# EAGLE library part LED_40 (library tus)
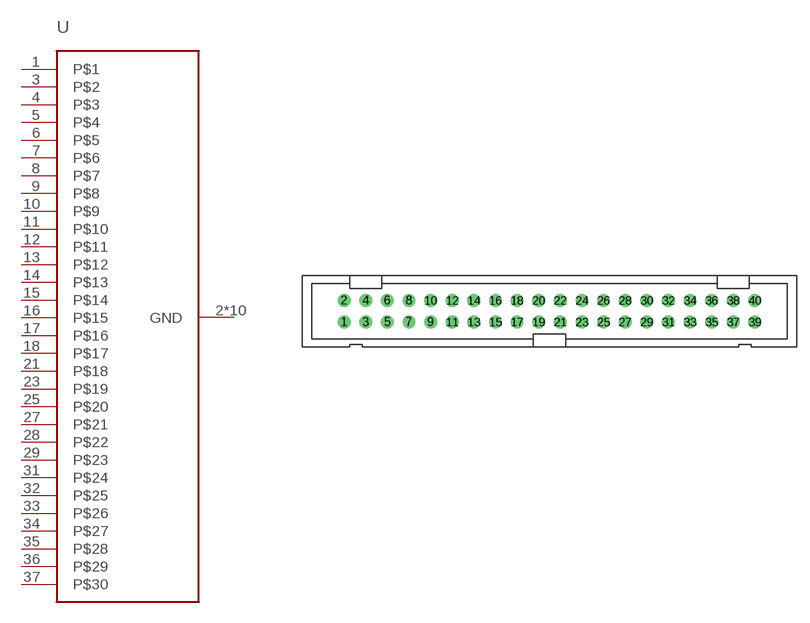
[diagram p2: symbol with the pads of PAK100/2500-40; footprint PAK100/2500-40]

Designator prefix -

## LED_40  [PAK100/2500-40]
1  P$1
2  GND
3  P$2
4  P$3
5  P$4
6  P$5
7  P$6
8  P$7
9  P$8
10  P$9
11  P$10
12  P$11
13  P$12
14  P$13
15  P$14
16  P$15
17  P$16
18  P$17
19  GND
20  GND
21  P$18
22  GND
23  P$19
24  GND
25  P$20
26  GND
27  P$21
28  P$22
29  P$23
30  GND
31  P$24
32  P$25
33  P$26
34  P$27
35  P$28
36  P$29
37  P$30
38  GND
39  GND
40  GND

## Footprint PAK100/2500-40 (pad centres in mm)
3M (TM) Pak 100 4-Wall Header Straight Source: 3M
drill 1 pad 1.422: 1 -24.13,-1.27; 2 -24.13,1.27; 3 -21.59,-1.27; 4 -21.59,1.27; 5 -19.05,-1.27; 6 -19.05,1.27; 7 -16.51,-1.27; 8 -16.51,1.27; 9 -13.97,-1.27; 10 -13.97,1.27; 11 -11.43,-1.27; 12 -11.43,1.27; 13 -8.89,-1.27; 14 -8.89,1.27; 15 -6.35,-1.27; 16 -6.35,1.27; 17 -3.81,-1.27; 18 -3.81,1.27; 19 -1.27,-1.27; 20 -1.27,1.27; 21 1.27,-1.27; 22 1.27,1.27; 23 3.81,-1.27; 24 3.81,1.27; 25 6.35,-1.27; 26 6.35,1.27; 27 8.89,-1.27; 28 8.89,1.27; 29 11.43,-1.27; 30 11.43,1.27; 31 13.97,-1.27; 32 13.97,1.27; 33 16.51,-1.27; 34 16.51,1.27; 35 19.05,-1.27; 36 19.05,1.27; 37 21.59,-1.27; 38 21.59,1.27; 39 24.13,-1.27; 40 24.13,1.27